# EAGLE library part G610 (library Fibocom)
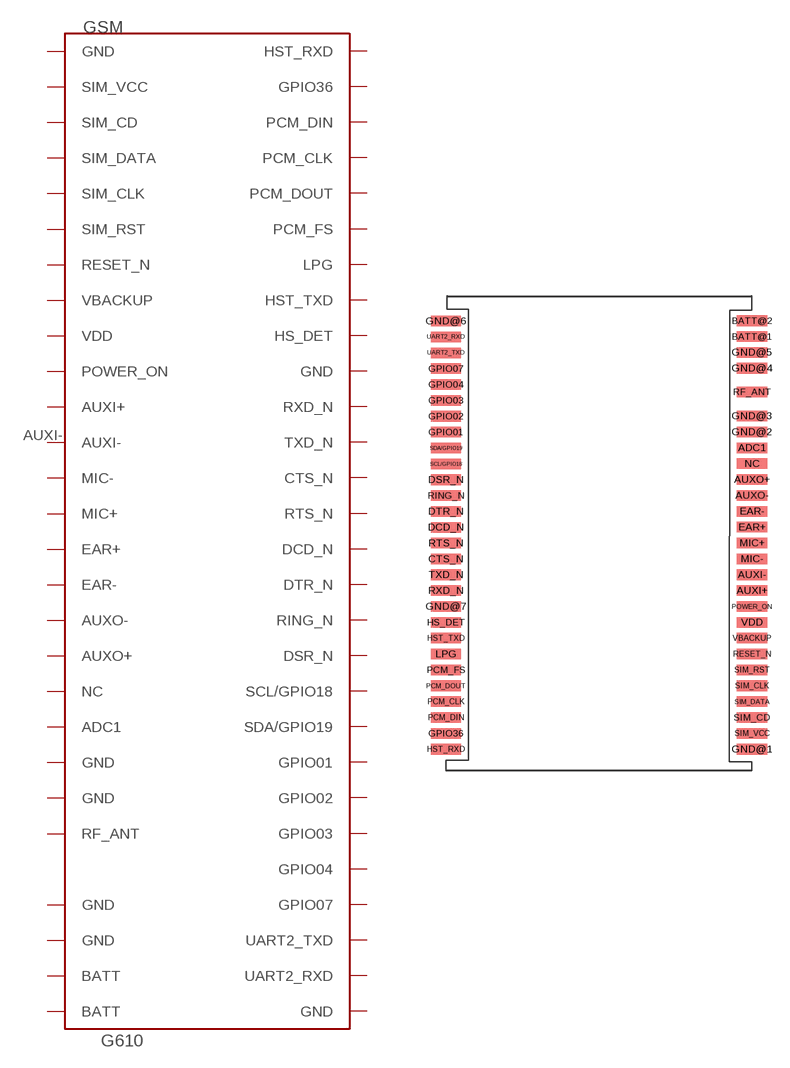
[diagram p0: symbol with the pads of LCC_55; footprint LCC_55]

Designator prefix GSM

## G610  [LCC_55]
ADC1  ADC1
AUXI+  AUXI+
AUXI-  AUXI-
AUXO+  AUXO+
AUXO-  AUXO-
BATT@1  BATT
BATT@2  BATT
CTS_N  CTS_N
DCD_N  DCD_N
DSR_N  DSR_N
DTR_N  DTR_N
EAR+  EAR+
EAR-  EAR-
GND@1  GND
GND@2  GND
GND@3  GND
GND@4  GND
GND@5  GND
GND@6  GND
GND@7  GND
GPIO01  GPIO01
GPIO02  GPIO02
GPIO03  GPIO03
GPIO04  GPIO04
GPIO07  GPIO07
GPIO36  GPIO36
HS_DET  HS_DET
HST_RXD  HST_RXD
HST_TXD  HST_TXD
LPG  LPG
MIC+  MIC+
MIC-  MIC-
NC  NC
PCM_CLK  PCM_CLK
PCM_DIN  PCM_DIN
PCM_DOUT  PCM_DOUT
PCM_FS  PCM_FS
POWER_ON  POWER_ON
RESET_N  RESET_N
RF_ANT  RF_ANT
RING_N  RING_N
RTS_N  RTS_N
RXD_N  RXD_N
SCL/GPIO18  SCL/GPIO18
SDA/GPIO19  SDA/GPIO19
SIM_CD  SIM_CD
SIM_CLK  SIM_CLK
SIM_DATA  SIM_DATA
SIM_RST  SIM_RST
SIM_VCC  SIM_VCC
TXD_N  TXD_N
UART2_RXD  UART2_RXD
UART2_TXD  UART2_TXD
VBACKUP  VBACKUP
VDD  VDD

## Footprint LCC_55 (pad centres in mm)
smd 2 x 0.7: ADC1 10.34,4.82; AUXI+ 10.34,-4.63; AUXI- 10.34,-3.58; AUXO+ 10.34,2.72; AUXO- 10.34,1.67; BATT@1 10.34,12.18; BATT@2 10.34,13.23; CTS_N -9.93,-2.54; DCD_N -9.93,-0.44; DSR_N -9.93,2.71; DTR_N -9.93,0.61; EAR+ 10.34,-0.43; EAR- 10.34,0.62; GND@1 10.34,-15.13; GND@2 10.34,5.87; GND@3 10.34,6.93; GND@4 10.34,10.09; GND@5 10.34,11.14; GND@6 -9.93,13.21; GND@7 -9.93,-5.68; GPIO01 -9.93,5.86; GPIO02 -9.93,6.91; GPIO03 -9.93,7.96; GPIO04 -9.93,9.01; GPIO07 -9.93,10.06; GPIO36 -9.93,-14.08; HS_DET -9.93,-6.73; HST_RXD -9.93,-15.13; HST_TXD -9.93,-7.78; LPG -9.93,-8.83; MIC+ 10.34,-1.48; MIC- 10.34,-2.53; NC 10.34,3.77; PCM_CLK -9.93,-11.98; PCM_DIN -9.93,-13.03; PCM_DOUT -9.93,-10.93; PCM_FS -9.93,-9.88; POWER_ON 10.34,-5.68; RESET_N 10.34,-8.83; RF_ANT 10.34,8.52; RING_N -9.93,1.66; RTS_N -9.93,-1.49; RXD_N -9.93,-4.63; SCL/GPIO18 -9.93,3.76; SDA/GPIO19 -9.93,4.81; SIM_CD 10.34,-13.03; SIM_CLK 10.34,-10.93; SIM_DATA 10.34,-11.98; SIM_RST 10.34,-9.88; SIM_VCC 10.34,-14.08; TXD_N -9.93,-3.58; UART2_RXD -9.93,12.16; UART2_TXD -9.93,11.11; VBACKUP 10.34,-7.78; VDD 10.34,-6.73